# EAGLE library part 0.56-INCH (library FansElectronics-7Segmen)
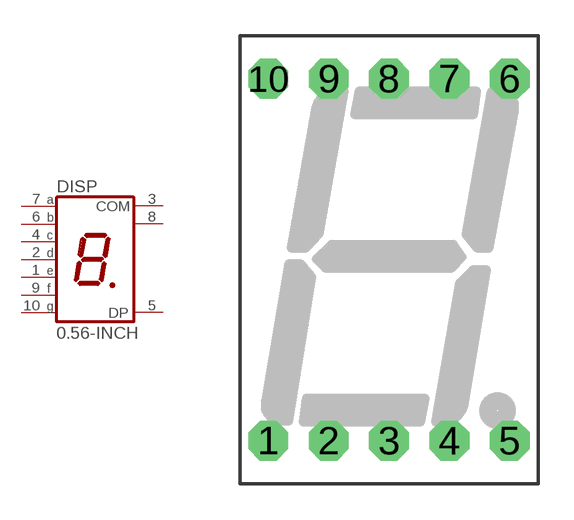
[diagram p3: symbol with the pads of 0.56"; footprint 0.56"]

Designator prefix DISP

## 0.56-INCH  [0.56"]
1  E  pas
2  D  pas
3  COM  pas
4  C  pas
5  DP  pas
6  B  pas
7  A  pas
8  COM  pas
9  F  pas
10  G  pas

## Footprint 0.56" (pad centres in mm)
drill 0.8 pad 1.676 octagon: 1 -5.08,-7.62; 2 -2.54,-7.62; 3 0,-7.62; 4 2.54,-7.62; 5 5.08,-7.62; 6 5.08,7.62; 7 2.54,7.62; 8 0,7.62; 9 -2.54,7.62; 10 -5.08,7.62